# Altium schematic symbol library DC-DC-AJ39.SCHLIB: 1 symbol
Pins are listed as number, name and electrical type; pins without a type are passive.

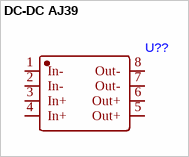
[diagram p0: symbol DC-DC AJ39]

## DC-DC AJ39
designator U??
footprint DC-DC-AJ39
pins: 1 In-, 2 In-, 3 In+, 4 In+, 5 Out+, 6 Out+, 7 Out-, 8 Out-